# Altium footprint library Sense2goL_V1.2.PcbLib: 24 footprints (part 2 of 2)
Each footprint in its own frame and in the unit in brackets; x right, y up, seen from the top. Pads: shape width x height; smd on the part's side, far side on the other; paste and mask are expansions set on the pad; w line width, h text height; cw(c..) or ccw(c..) is an arc to the next point about the centre after c.
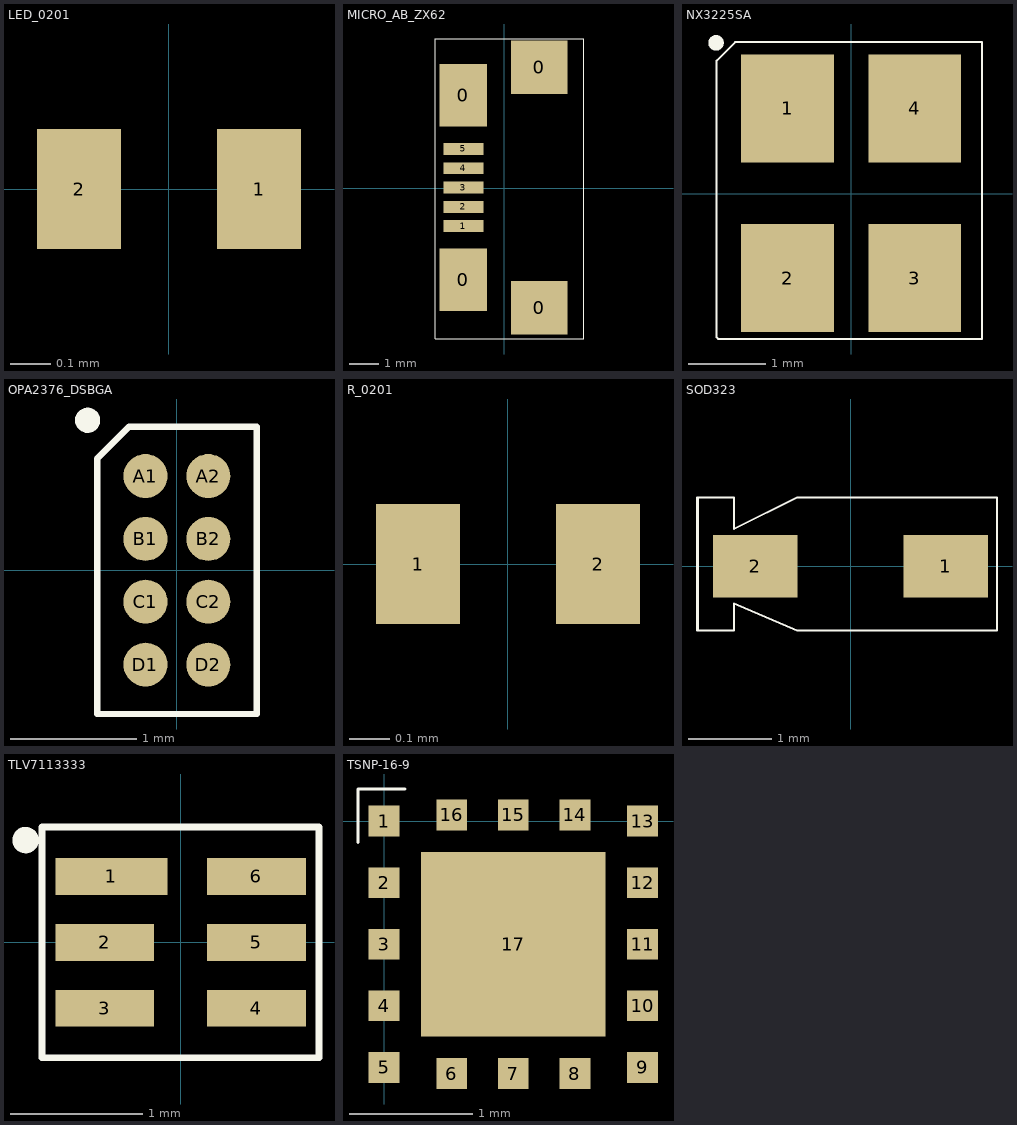
[diagram p1: the footprints below, top view; thin cyan lines are the x and y axes]

## LED_0201 [mm] "LED_0201"
pads (2):
  rect 0.21x0.3 smd mask+0.051: 1(0.225,0) 2(-0.225,0)
3D body: height 0.13, standoff 0, extent -0.3,-0.15 0.3,0.15

## MICRO_AB_ZX62 [mm] "MICRO_AB_ZX62"
pads (9):
  rect 1.6x2.1 smd: 0(-1.375,-3.075) 0(-1.375,3.125)
  rect 1.9x1.8 smd: 0(1.175,-4.025) 0(1.175,4.075)
  rect 1.35x0.4 smd: 1(-1.375,-1.275) 2(-1.375,-0.625) 3(-1.375,0.025) 4(-1.375,0.675) 5(-1.375,1.325)
Top Overlay:
  lines w0.025: -2.325,-5.075 -2.325,5.025 2.675,5.025 2.675,-5.075 -2.325,-5.075
3D body "User Library-10104111.STEP": height 2.75, standoff -0.32, extent -2.068,-4.349 3.558,4.451

## NX3225SA [mm] "NX3225SA"
pads (4):
  rect 1.2x1.4 smd: 1(-0.825,1.105) 2(-0.825,-1.095) 3(0.825,-1.095) 4(0.825,1.105)
Top Overlay:
  circle w0.1: c-1.752,1.956 r0.05
  lines w0.025: -1.745,-1.865 -1.745,1.725 -1.505,1.965 1.695,1.965 1.695,-1.885 -1.725,-1.885 -1.745,-1.865
3D body "User Library-User Library-Siward_SX3225.step": height 0.81, standoff 0, extent -1.25,-1.6 1.25,1.6

## OPA2376_DSBGA [mm] "OPA2376_DSBGA"
pads (8):
  round 0.35 smd mask+0.051: A1(-0.25,0.75) A2(0.25,0.75) B1(-0.25,0.25) B2(0.25,0.25) C1(-0.25,-0.25) C2(0.25,-0.25) D1(-0.25,-0.75) D2(0.25,-0.75)
Top Overlay:
  circle w0.1: c-0.71,1.194 r0.05
  lines w0.051: -0.635,-1.143 0.635,-1.143 0.635,1.143 -0.381,1.143 -0.635,0.889 -0.635,-1.143
3D body: height 0.25, standoff 0, extent -0.61,-1.143 0.635,1.118

## R_0201 [mm] "R_0201"
pads (2):
  rect 0.21x0.3 smd mask+0.051: 1(-0.225,0) 2(0.225,0)
3D body: height 0.13, standoff 0, extent -0.152,-0.15 0.152,0.15
3D body: height 0.13, standoff 0, extent -0.305,-0.15 -0.152,0.15
3D body: height 0.13, standoff 0, extent 0.152,-0.15 0.305,0.15

## SOD323 [mm] "SOD323"
pads (2):
  rect 1.01x0.75 smd: 1(1.143,0)
  rect 1.01x0.75 smd mask+0.102: 2(-1.143,0)
Top Overlay:
  lines w0.025: -1.829,-0.762 -1.829,0.813 ; -0.643,-0.775 1.757,-0.775 ; -0.643,-0.775 -1.397,-0.451 -1.397,-0.775 -1.843,-0.775 -1.843,0.725 -1.843,0.825 -1.397,0.825 -1.397,0.448 -0.643,0.825 ; -0.643,-0.775 1.757,-0.775 ; -0.643,0.825 1.757,0.825 ; -0.643,0.825 1.757,0.825 ; 1.757,-0.775 1.757,0.825 ; 1.757,-0.775 1.757,0.825
3D body "SOD-323.STEP": height 1.1, standoff 0, extent -1.3,-0.675 1.3,0.675

## TLV7113333 [mm] "TLV7113333"
pads (6):
  rect 0.85x0.28 smd mask+0.051: 1(-0.525,0.5)
  rect 0.75x0.28 smd mask+0.051: 2(-0.575,0) 3(-0.575,-0.5) 4(0.575,-0.5) 5(0.575,0) 6(0.575,0.5)
Top Overlay:
  circle w0.1: c-1.175,0.775 r0.05
  lines w0.051: -1.05,-0.875 -1.05,0.875 1.05,0.875 1.05,-0.875 -1.05,-0.875
3D body: height 0.8, standoff 0, extent -0.75,-0.75 0.75,0.75

## TSNP-16-9 [mm] "TSNP-16-9"
pads (17):
  rect 0.25x0.25 smd mask+0.051: 1(0,0) 2(0,-0.5) 3(0,-1) 4(0,-1.5) 5(0,-2) 6(0.55,-2.05) 7(1.05,-2.05) 8(1.55,-2.05) 9(2.1,-2) 10(2.1,-1.5) 11(2.1,-1) 12(2.1,-0.5) 13(2.1,0) 14(1.55,0.05) 15(1.05,0.05) 16(0.55,0.05)
  rect 1.5x1.5 smd mask+0.051: 17(1.05,-1)
Top Overlay:
  lines w0.025: -0.211,-0.171 -0.211,0.261 0.17,0.261
3D body: height 0.38, standoff 0, extent -0.169,-2.219 2.269,0.219